# Altium footprint library Diodes.PcbLib: 8 footprints
Each footprint in its own frame and in the unit in brackets; x right, y up, seen from the top. Pads: shape width x height; smd on the part's side, far side on the other; paste and mask are expansions set on the pad; w line width, h text height; cw(c..) or ccw(c..) is an arc to the next point about the centre after c.
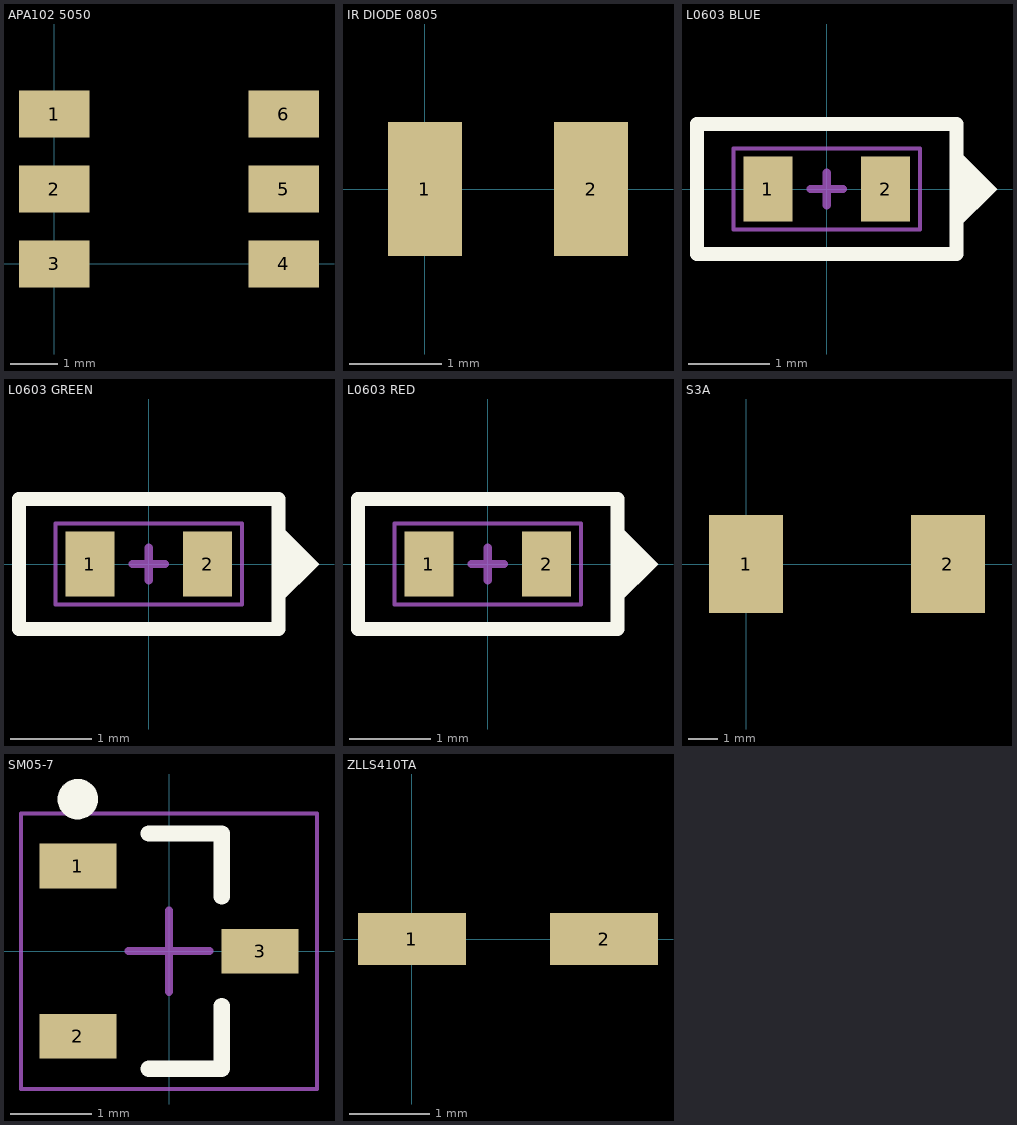
[diagram p0: the footprints below, top view; thin cyan lines are the x and y axes]

## APA102 5050 [mm]
pads (6):
  rect 1.5x1 smd: 1(0,3.2) 2(0,1.6) 3(0,0) 4(4.9,0) 5(4.9,1.6) 6(4.9,3.2)
3D body "User Library-APA102C.step": height 1.4, standoff -0.15, extent -0.35,-0.9 5.15,4.1

## IR DIODE 0805 [mm]
pads (2):
  rect 0.8x1.45 smd: 1(0,0) 2(1.8,0)
3D body "ALSRobot-LED 0805.step": height 1.1, standoff 0, extent -0.11,-0.625 1.91,0.625

## L0603 BLUE [mm]
pads (2):
  rect 0.6x0.8 smd: 1(-0.725,0) 2(0.725,0)
Top Overlay:
  region: 1.6,0.5 1.6,-0.5 2.1,0
  lines w0.17: -1.6,-0.8 1.6,-0.8 1.6,0.8 -1.6,0.8 -1.6,-0.8
Top Assembly:
  lines w0.05: -1.15,-0.5 -1.15,0.5 1.15,0.5 1.15,-0.5 -1.15,-0.5
Top Placement:
  lines w0.05: -1.15,-0.5 1.15,-0.5 1.15,0.5 -1.15,0.5 -1.15,-0.5
  lines w0.1: -0.2,0 0.2,0 ; 0,-0.2 0,0.2
3D body "User Library-LED_0603_B.STEP": height 0.6, standoff 0, extent -0.8,-0.4 0.8,0.4

## L0603 GREEN [mm]
pads (2):
  rect 0.6x0.8 smd: 1(-0.725,0) 2(0.725,0)
Top Overlay:
  region: 1.6,0.5 1.6,-0.5 2.1,0
  lines w0.17: -1.6,-0.8 1.6,-0.8 1.6,0.8 -1.6,0.8 -1.6,-0.8
Top Assembly:
  lines w0.05: -1.15,-0.5 -1.15,0.5 1.15,0.5 1.15,-0.5 -1.15,-0.5
Top Placement:
  lines w0.05: -1.15,-0.5 -1.15,0.5 1.15,0.5 1.15,-0.5 -1.15,-0.5
  lines w0.1: -0.2,0 0.2,0 ; 0,-0.2 0,0.2
3D body "User Library-LED_0603_G.STEP": height 0.6, standoff 0, extent -0.8,-0.4 0.8,0.4

## L0603 RED [mm]
pads (2):
  rect 0.6x0.8 smd: 1(-0.725,0) 2(0.725,0)
Top Overlay:
  region: 1.6,0.5 1.6,-0.5 2.1,0
  lines w0.17: -1.6,-0.8 -1.6,0.8 1.6,0.8 1.6,-0.8 -1.6,-0.8
Top Assembly:
  lines w0.05: -1.15,-0.5 1.15,-0.5 1.15,0.5 -1.15,0.5 -1.15,-0.5
Top Placement:
  lines w0.05: -1.15,-0.5 -1.15,0.5 1.15,0.5 1.15,-0.5 -1.15,-0.5
  lines w0.1: -0.2,0 0.2,0 ; 0,-0.2 0,0.2
3D body "User Library-LED_0603_R.STEP": height 0.6, standoff 0, extent -0.8,-0.4 0.8,0.4

## S3A [mm]
pads (2):
  rect 2.5x3.3 smd: 1(0,0) 2(6.8,0)
3D body "User Library-DO-214AB-SMC.step": height 2.4, standoff -0.05, extent -0.55,-2.85 7.25,3.05

## SM05-7 [mm] "SOT23, 3-Leads, Body 2.85x2.35mm, Pitch 1.05mm, IPC Medium Density"
height 1.1
pads (3):
  rect 0.95x0.55 smd: 1(-1.125,1.05) 2(-1.125,-1.05) 3(1.125,0)
Top Overlay:
  circle w0.25: c-1.125,1.875 r0.125
  lines w0.2: -0.25,-1.45 0.65,-1.45 0.65,-0.675 ; -0.25,1.45 0.65,1.45 0.65,0.675
Top Assembly:
  lines w0.05: -1.825,-1.7 1.825,-1.7 1.825,1.7 -1.825,1.7 -1.825,-1.7
Top Placement:
  lines w0.05: -1.825,-1.7 -1.825,1.7 1.825,1.7 1.825,-1.7 -1.825,-1.7
  lines w0.1: -0.5,0 0.5,0 ; 0,-0.5 0,0.5
3D body "SOT105P235X110-3N.step": height 1.1, standoff 0, extent -1.2,-1.45 1.2,1.45

## ZLLS410TA [mm] "SOD-323, 2 pins"
pads (2):
  rect 1.35x0.65 smd: 1(0,0) 2(2.4,0)
3D body "User Library-Mini2-F4-B.STEP": height 0.8, standoff -0.03, extent -0.56,-0.81 2.94,0.79